# EAGLE library part PAC1934T-I_JQ (library PAC1934T-I_JQ)
PAC1934T-I/JQ - QUAD HIGH-SIDE CURRENT SENSOR, I2C/SMBUS, 32V WITH ACCUMULATOR 16 UQF 4X4X0.5MM T/C Source: Datasheet <https://www.mouser.com/datasheet/2/268/PAC1932-Data-Sheet-DS20005850C-1519053.pdf>
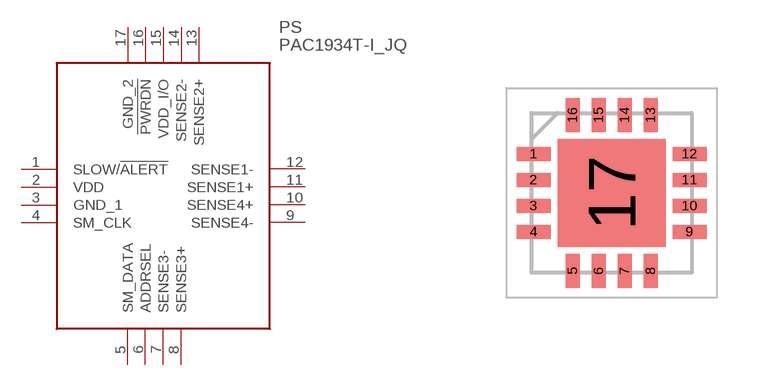
[diagram p0: symbol with the pads of QFN65P400X400X55-17N; footprint QFN65P400X400X55-17N]

Designator prefix PS

## PAC1934T-I_JQ (Description: PAC1934T-I/JQ - QUAD HIGH-SIDE CURRENT SENSOR, I2C/SMBUS, 32V WITH ACCUMULATOR 16 UQF 4X4X0.5MM T/C; Height: 0.55mm; Manufacturer_Name: Microchip; Manufacturer_Part_Number: PAC1934T-I/JQ; Mouser_Part_Number: 579-PAC1934JQ; Mouser_Price-Stock: https://www.mouser.com/Search/Refine.aspx?Keyword=579-PAC1934JQ; RS_Part_Number: 1794011P; RS_Price-Stock: http://uk.rs-online.com/web/p/products/1794011P)  [QFN65P400X400X55-17N]
1  SLOW/!ALERT  out
2  VDD  pwr
3  GND_1  pwr
4  SM_CLK  in
5  SM_DATA
6  ADDRSEL  in
7  SENSE3-  in
8  SENSE3+  in
9  SENSE4-  in
10  SENSE4+  in
11  SENSE1+  in
12  SENSE1-  in
13  SENSE2+  in
14  SENSE2-  in
15  VDD_I/O  pwr
16  !PWRDN  in
17  GND_2  pwr

## Footprint QFN65P400X400X55-17N (pad centres in mm)
16 LEAD UTPQFP (JQ) 4x4x0.5
smd 0.85 x 0.35: 1 -1.95,0.975; 2 -1.95,0.325; 3 -1.95,-0.325; 4 -1.95,-0.975; 9 1.95,-0.975; 10 1.95,-0.325; 11 1.95,0.325; 12 1.95,0.975
smd 0.35 x 0.85: 5 -0.975,-1.95; 6 -0.325,-1.95; 7 0.325,-1.95; 8 0.975,-1.95; 13 0.975,1.95; 14 0.325,1.95; 15 -0.325,1.95; 16 -0.975,1.95
smd 2.7 x 2.7: 17 0,0